# Altium footprint library SMD_connector.PcbLib: 2 footprints
Each footprint in its own frame and in the unit in brackets; x right, y up, seen from the top. Pads: shape width x height; smd on the part's side, far side on the other; paste and mask are expansions set on the pad; w line width, h text height; cw(c..) or ccw(c..) is an arc to the next point about the centre after c.
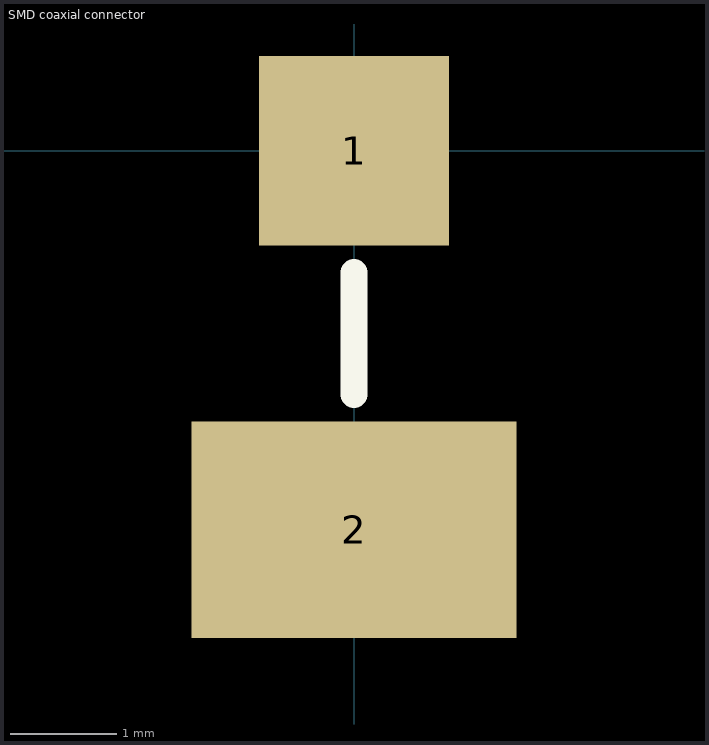
[diagram p0: the footprints below, top view; thin cyan lines are the x and y axes]

## PCBComponent_1 [mil]

## SMD coaxial connector [mil]
pads (2):
  rect 70x70 smd: 1(0,0)
  rect 120x80 smd: 2(0,-140)
Top Overlay:
  lines w10: 0,-90 0,-45